# Altium schematic symbol library micron-flash.SchLib: 3 symbols
Pins are listed as number, name and electrical type; pins without a type are passive.

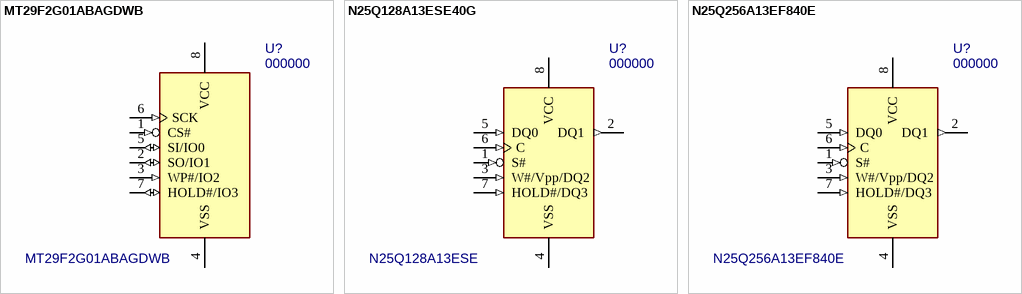
[diagram p0: symbols MT29F2G01ABAGDWB to N25Q256A13EF840E]

## MT29F2G01ABAGDWB
designator U?, comment 000000  value MT29F2G01ABAGDWB
2Gb NANDl Flash Memory,  133MHz, SPI; MF: Micron; MF PN: MT29F2G01ABAGDWB-IT:G TR; PN: 000000; Package: 8VDFN; ExtraInfo: *; Digi-Key PN: 557-1664-1-ND; Price: 3.52500
footprint U-PDFN-8 (QFN, 8-Leads, Body 6.0x8.0mm (max), Pitch 1.27mm, IPC Medium Density)
pins: 1 CS# (in), 2 SO/IO1 (io), 3 WP#/IO2 (in), 4 VSS (power), 5 SI/IO0 (io), 6 SCK (in), 7 HOLD#/IO3 (io), 8 VCC (power)

## N25Q128A13ESE40G
designator U?, comment 000000  value N25Q128A13ESE
128Mb, 3V, Serial Flash Memory; MF: Micron; PN: 000000; Package: SOP2-8; ExtraInfo: *
footprint SOP2-8 (SOIC, 8-Leads, Body 5.1x5.1mm (max), Pitch 1.27mm, IPC Medium Density)
pins: 1 S# (in), 2 DQ1 (out), 3 W#/Vpp/DQ2 (in), 4 VSS (power), 5 DQ0 (in), 6 C (in), 7 HOLD#/DQ3 (in), 8 VCC (power)

## N25Q256A13EF840E
designator U?, comment 000000  value N25Q256A13EF840E
256Mb, 3V, Serial Flash Memory; MF: Micron; PN: 000000; Package: 8VDFN; ExtraInfo: *
footprint V-PDFN-8 (QFN, 8-Leads, Body 6.0x8.0mm (max), Pitch 1.27mm, IPC Medium Density)
pins: 1 S# (in), 2 DQ1 (out), 3 W#/Vpp/DQ2 (in), 4 VSS (power), 5 DQ0 (in), 6 C (in), 7 HOLD#/DQ3 (in), 8 VCC (power)